# Altium schematic symbol library ISL6236A_DEMO.SchLib: 20 symbols (part 1 of 2)
Pins are listed as number, name and electrical type; pins without a type are passive.

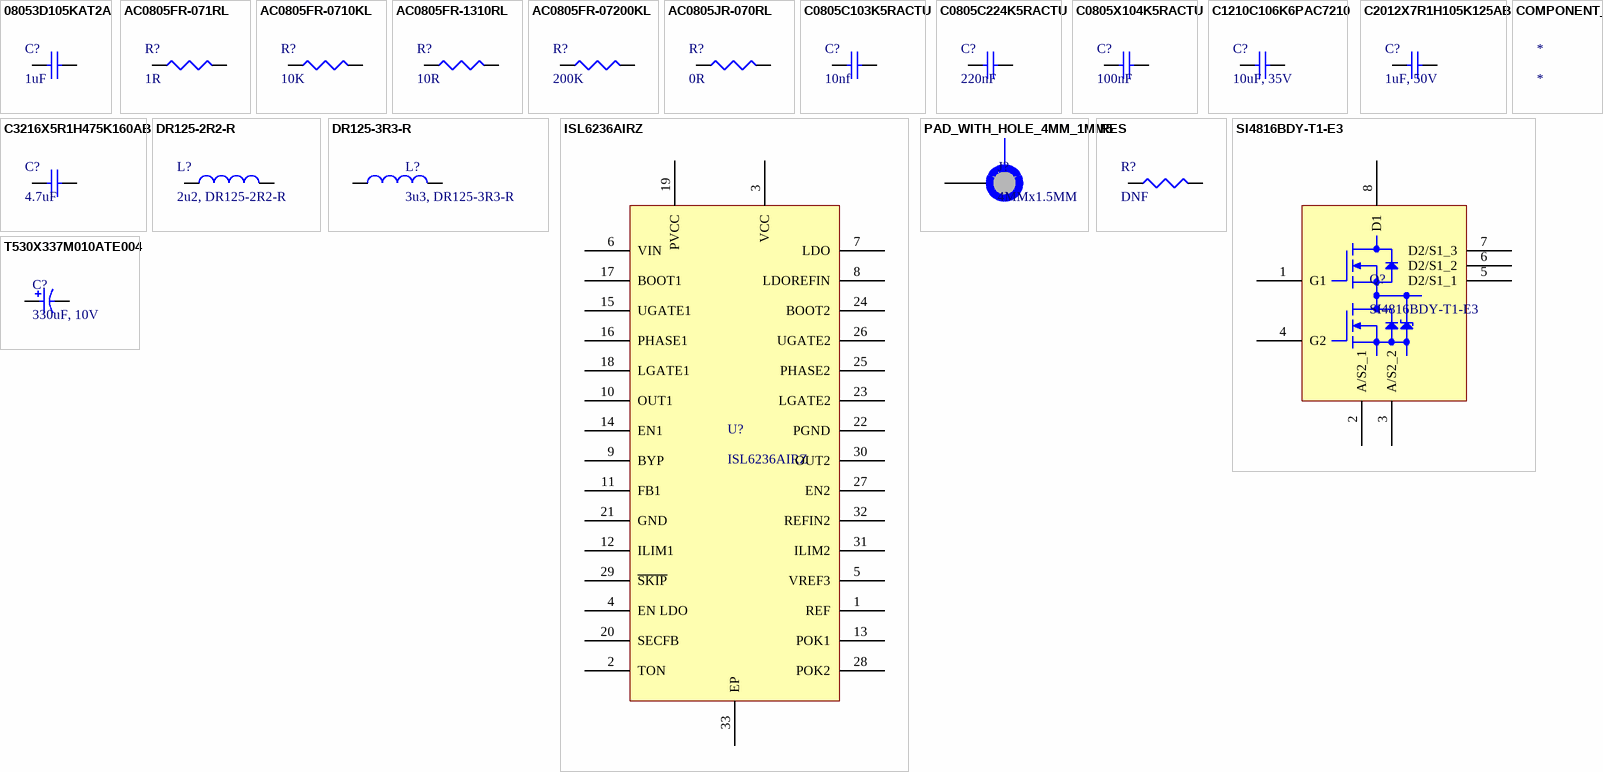
[diagram p0: symbols 08053D105KAT2A to T530X337M010ATE004]

## 08053D105KAT2A
designator C?, comment 1uF
Capacitor, Zero Ohm Resistor, Jumper, 0805 [2012 Metric], Thick Film, 125 mW, 2 A, Surface Mount Device; Manufacturer: KYOCERA AVX; Manufacturer Part Number: 08053D105KAT2A; Manufacturer Package Identifier: 0805 (2012 metric); Value: 1µF; Dielectric: X5R; Dielectric Material: Ceramic; Tolerance: 10%; Voltage: 25V; Max Power Dissipation: 125mW; Temperature Coefficient: 200ppm/°C; Supplier: DigiKey; Supplier Part Number: 478-KGM21AR51E105KUCT-ND; RoHS: Compliant; Category: Ceramic Capacitors; Stock: 22000; Pricing: 1=0.68, 10=0.423, 50=0.3216, 100=0.2903, 500=0.23776, 1000=0.22151 (USD); Case/Package: 0805; Case Code (Imperial): 0805; Case Code (Metric): 2012; China RoHS: Compliant; Contact Plating: Tin; Country of Origin: Mainland China, Taiwan; Depth: 1.25mm; Export Control Classification Number (ECCN) Code: EAR99; Height: 1.4mm; Harmonized Tariff Schedule (HTS) Code: 8532.24.00.20; Introduction Date: 2001-11-14; Lead Free: Lead Free; Length: 2.01mm; Lifecycle Status: Production; Material: Ceramic; Max Operating Temperature: 85°C; Min Operating Temperature: -55°C; Mounting Technology: Surface Mount; Pins: 2; Number of Terminals: 2; Radiation Hardening: No; REACH SVHC: Yes; Schedule B: 8532240020; Termination: SMD/SMT; Thickness: 1.397mm; Voltage Rating: 25V; Voltage Rating (AC): 25V; Voltage Rating (DC): 25V; Width: 1.25mm; ComponentLink1URL: https://datasheet.octopart.com:443/08053D105KAT2A-KYOCERA-AVX-datasheet-165873359.pdf?src-supplier=IHS; ComponentLink1Description: https://datasheet.octopart.com:443/08053D105KAT2A-KYOCERA-AVX-datasheet-165873359.pdf?src-supplier=IHS; ComponentLink2URL: https://datasheet.octopart.com:443/08053D105KAT2A-AVX-datasheet-151661372.pdf?src-supplier=Upverter; ComponentLink2Description: https://datasheet.octopart.com:443/08053D105KAT2A-AVX-datasheet-151661372.pdf?src-supplier=Upverter; ComponentLink3URL: https://sigma.octopart.com:443/147443767/technical_drawing/AVX-08053D105KAT2A.pdf?src-supplier=Upverter; ComponentLink3Description: https://sigma.octopart.com:443/147443767/technical_drawing/AVX-08053D105KAT2A.pdf?src-supplier=Upverter; ComponentLink4URL: https://datasheet.octopart.com:443/08053D105KAT2A-AVX-datasheet-12340990.pdf?src-supplier=element14+APAC; ComponentLink4Description: https://datasheet.octopart.com:443/08053D105KAT2A-AVX-datasheet-12340990.pdf?src-supplier=element14+APAC; ComponentLink5URL: https://datasheet.octopart.com:443/08053D105KAT2A-AVX-datasheet-5314571.pdf?src-supplier=Factory+Futures; ComponentLink5Description: https://datasheet.octopart.com:443/08053D105KAT2A-AVX-datasheet-5314571.pdf?src-supplier=Factory+Futures; ComponentLink6URL: https://datasheet.octopart.com:443/08053D105KAT2A-AVX-datasheet-8448153.pdf?src-supplier=Factory+Futures; ComponentLink6Description: https://datasheet.octopart.com:443/08053D105KAT2A-AVX-datasheet-8448153.pdf?src-supplier=Factory+Futures; ComponentLink7URL: https://datasheet.octopart.com:443/08053D105KAT2A-KYOCERA-AVX-datasheet-78690022.pdf?src-supplier=Newark; ComponentLink7Description: https://datasheet.octopart.com:443/08053D105KAT2A-KYOCERA-AVX-datasheet-78690022.pdf?src-supplier=Newark; ComponentLink8URL: https://datasheet.octopart.com:443/08053D105KAT2A-AVX-datasheet-10029314.pdf?src-supplier=Newark; ComponentLink8Description: https://datasheet.octopart.com:443/08053D105KAT2A-AVX-datasheet-10029314.pdf?src-supplier=Newark; ComponentLink9URL: https://datasheet.octopart.com:443/08053D105KAT2A-AVX-datasheet-504564.pdf?src-supplier=Newark; ComponentLink9Description: https://datasheet.octopart.com:443/08053D105KAT2A-AVX-datasheet-504564.pdf?src-supplier=Newark; ComponentLink10URL: https://datasheet.octopart.com:443/08053D105KAT2A-KYOCERA-AVX-datasheet-50865064.pdf?src-supplier=Future+Electronics; ComponentLink10Description: https://datasheet.octopart.com:443/08053D105KAT2A-KYOCERA-AVX-datasheet-50865064.pdf?src-supplier=Future+Electronics; ComponentLink11URL: https://datasheet.octopart.com:443/08053D105KAT2A-AVX-datasheet-26443659.pdf?src-supplier=Future+Electronics; ComponentLink11Description: https://datasheet.octopart.com:443/08053D105KAT2A-AVX-datasheet-26443659.pdf?src-supplier=Future+Electronics; ComponentLink12URL: https://datasheet.octopart.com:443/08053D105KAT2A-AVX---Kyocera-datasheet-52.pdf?src-supplier=TME; ComponentLink12Description: https://datasheet.octopart.com:443/08053D105KAT2A-AVX---Kyocera-datasheet-52.pdf?src-supplier=TME; ComponentLink13URL: https://datasheet.octopart.com:443/08053D105KAT2A-KYOCERA-AVX-datasheet-155912759.pdf?src-supplier=TME; ComponentLink13Description: https://datasheet.octopart.com:443/08053D105KAT2A-KYOCERA-AVX-datasheet-155912759.pdf?src-supplier=TME; ComponentLink14URL: https://datasheet.octopart.com:443/08053D105KAT2A-KYOCERA-AVX-datasheet-156093842.pdf?src-supplier=TME; ComponentLink14Description: https://datasheet.octopart.com:443/08053D105KAT2A-KYOCERA-AVX-datasheet-156093842.pdf?src-supplier=TME; ComponentLink15URL: https://datasheet.octopart.com:443/08053D105KAT2A-KYOCERA-AVX-datasheet-158983636.pdf?src-supplier=Farnell; ComponentLink15Description: https://datasheet.octopart.com:443/08053D105KAT2A-KYOCERA-AVX-datasheet-158983636.pdf?src-supplier=Farnell; ComponentLink16URL: https://datasheet.octopart.com:443/08053D105KAT2A-AVX-datasheet-499312.pdf?src-supplier=Farnell; ComponentLink16Description: https://datasheet.octopart.com:443/08053D105KAT2A-AVX-datasheet-499312.pdf?src-supplier=Farnell; ComponentLink17URL: https://datasheet.octopart.com:443/08053D105KAT2A-AVX-datasheet-53666.pdf?src-supplier=Farnell; ComponentLink17Description: https://datasheet.octopart.com:443/08053D105KAT2A-AVX-datasheet-53666.pdf?src-supplier=Farnell; ComponentLink18URL: https://datasheet.octopart.com/08053D105KAT2A-AVX---Kyocera-datasheet-13516023.pdf; ComponentLink18Description: https://datasheet.octopart.com/08053D105KAT2A-AVX---Kyocera-datasheet-13516023.pdf; ComponentLink19URL: https://datasheet.octopart.com:443/08053D105KAT2A-AVX-datasheet-8318030.pdf?src-supplier=Garrett; ComponentLink19Description: https://datasheet.octopart.com:443/08053D105KAT2A-AVX-datasheet-8318030.pdf?src-supplier=Garrett; ComponentLink20URL: https://datasheet.octopart.com:443/08053D105KAT2A-AVX-datasheet-5383.pdf?src-supplier=Garrett; ComponentLink20Description: https://datasheet.octopart.com:443/08053D105KAT2A-AVX-datasheet-5383.pdf?src-supplier=Garrett; ComponentLink21URL: https://datasheet.octopart.com:443/08053D105KAT2A-AVX-datasheet-109270.pdf?src-supplier=Garrett; ComponentLink21Description: https://datasheet.octopart.com:443/08053D105KAT2A-AVX-datasheet-109270.pdf?src-supplier=Garrett; ComponentLink22URL: https://datasheet.octopart.com:443/08053D105KAT2A-AVX-datasheet-22851.pdf?src-supplier=RS+(Formerly+Allied+Electronics); ComponentLink22Description: https://datasheet.octopart.com:443/08053D105KAT2A-AVX-datasheet-22851.pdf?src-supplier=RS+(Formerly+Allied+Electronics); ComponentLink23URL: https://datasheet.octopart.com:443/08053D105KAT2A-AVX-datasheet-111401.pdf?src-supplier=Sierra+IC; ComponentLink23Description: https://datasheet.octopart.com:443/08053D105KAT2A-AVX-datasheet-111401.pdf?src-supplier=Sierra+IC; ComponentLink24URL: http://sigma.octopart.com:80/conflict_mineral_statement/AVX-company-34.pdf?src-supplier=Compliance+Statements; ComponentLink24Description: http://sigma.octopart.com:80/conflict_mineral_statement/AVX-company-34.pdf?src-supplier=Compliance+Statements; ComponentLink25URL: http://sigma.octopart.com:80/reach_statement/AVX-company-19.pdf?src-supplier=Compliance+Statements; ComponentLink25Description: http://sigma.octopart.com:80/reach_statement/AVX-company-19.pdf?src-supplier=Compliance+Statements; Composition: Thick Film; Features: Automotive AEC-Q200, Moisture Resistant; Number of Terminations: 2; Packaging: Tape & Reel; Power Rating: 125mW; Ratings: AEC-Q200; ComponentLink26URL: https://datasheet.octopart.com:443/AC0805JR-070RL-Yageo-datasheet-176385416.pdf?src-supplier=IHS; ComponentLink26Description: https://datasheet.octopart.com:443/AC0805JR-070RL-Yageo-datasheet-176385416.pdf?src-supplier=IHS; ComponentLink27URL: https://datasheet.octopart.com:443/AC0805JR-070RL-Yageo-datasheet-151884373.pdf?src-supplier=Future+Electronics; ComponentLink27Description: https://datasheet.octopart.com:443/AC0805JR-070RL-Yageo-datasheet-151884373.pdf?src-supplier=Future+Electronics; ComponentLink28URL: https://datasheet.octopart.com:443/AC0805JR-070RL-Yageo-datasheet-166720450.pdf?src-supplier=Future+Electronics; ComponentLink28Description: https://datasheet.octopart.com:443/AC0805JR-070RL-Yageo-datasheet-166720450.pdf?src-supplier=Future+Electronics; ComponentLink29URL: https://datasheet.octopart.com:443/AC0805JR-070RL-Yageo-datasheet-137699919.pdf?src-supplier=Future+Electronics; ComponentLink29Description: https://datasheet.octopart.com:443/AC0805JR-070RL-Yageo-datasheet-137699919.pdf?src-supplier=Future+Electronics; ComponentLink30URL: https://datasheet.octopart.com:443/AC0805JR-070RL-Yageo-datasheet-83209224.pdf?src-supplier=Future+Electronics; ComponentLink30Description: https://datasheet.octopart.com:443/AC0805JR-070RL-Yageo-datasheet-83209224.pdf?src-supplier=Future+Electronics; ComponentLink31URL: https://datasheet.octopart.com:443/AC0805JR-070RL-Yageo-datasheet-62139191.pdf?src-supplier=Future+Electronics; ComponentLink31Description: https://datasheet.octopart.com:443/AC0805JR-070RL-Yageo-datasheet-62139191.pdf?src-supplier=Future+Electronics; ComponentLink32URL: https://sigma.octopart.com:443/138820526/technical_drawing/Yageo-AC0805JR-070RL.pdf?src-supplier=Upverter; ComponentLink32Description: https://sigma.octopart.com:443/138820526/technical_drawing/Yageo-AC0805JR-070RL.pdf?src-supplier=Upverter; ComponentLink33URL: https://datasheet.octopart.com:443/AC0805JR-070RL-Yageo-Group-datasheet-164768995.pdf?src-supplier=ODG+(Origin+Data+Global); ComponentLink33Description: https://datasheet.octopart.com:443/AC0805JR-070RL-Yageo-Group-datasheet-164768995.pdf?src-supplier=ODG+(Origin+Data+Global); ComponentLink34URL: https://datasheet.octopart.com/AC0805JR-070RL-Yageo-datasheet-12512238.pdf; ComponentLink34Description: https://datasheet.octopart.com/AC0805JR-070RL-Yageo-datasheet-12512238.pdf; ComponentLink35URL: https://datasheet.octopart.com:443/AC0805JR-070RL-Yageo-Group-datasheet-190384202.pdf?src-supplier=Farnell; ComponentLink35Description: https://datasheet.octopart.com:443/AC0805JR-070RL-Yageo-Group-datasheet-190384202.pdf?src-supplier=Farnell; ComponentLink36URL: http://sigma.octopart.com:80/conflict_mineral_statement/Yageo-company-3.pdf?src-supplier=Compliance+Statements; ComponentLink36Description: http://sigma.octopart.com:80/conflict_mineral_statement/Yageo-company-3.pdf?src-supplier=Compliance+Statements; ComponentLink37URL: http://sigma.octopart.com:80/rohs_statement/Yageo-company-2.pdf?src-supplier=Compliance+Statements; ComponentLink37Description: http://sigma.octopart.com:80/rohs_statement/Yageo-company-2.pdf?src-supplier=Compliance+Statements
pins: 1, 2

## AC0805FR-071RL
designator R?, comment 1R
Res Thick Film 0805 1 Ohm 1% 0.125W(1/8W) ±200ppm/C Pad SMD T/R Automotive AEC-Q200; Manufacturer: Yageo Group; Manufacturer Part Number: AC0805FR-071RL; Manufacturer Package Identifier: 0805 (2012 metric); Max Power Dissipation: 125mW; Value: 1Ω; Temperature Coefficient: 200ppm/°C; Voltage Rating: 150V; Supplier: DigiKey; Supplier Part Number: YAG3705CT-ND; RoHS: Compliant; Category: Chip SMD Resistors; Stock: 493; Pricing: 1=0.12, 10=0.055, 25=0.042, 50=0.035, 100=0.0293, 250=0.02368, 500=0.02046, 1000=0.01791 (USD); Case/Package: 0805; Case Code (Imperial): 0805; Case Code (Metric): 2012; China RoHS: Non-Compliant; Composition: Thick Film; Features: Automotive AEC-Q200, Moisture Resistant; Height: 500µm; Lead Free: Lead Free; Length: 2mm; Lifecycle Status: Production; Max Operating Temperature: 155°C; Min Operating Temperature: -55°C; Mounting Technology: Surface Mount; Number of Terminals: 2; Number of Terminations: 2; Packaging: Tape & Reel; Power Rating: 125mW; Ratings: AEC-Q200; REACH SVHC: Yes; Schedule B: 8533210045, 8533210045|8533210045|8533210045|8533210045|8533210045; Termination: SMD/SMT; Tolerance: 1%; Weight: 5.499807mg; Width: 1.25mm; Working Voltage: 150V; ComponentLink1URL: https://datasheet.octopart.com:443/AC0805FR-071RL-Yageo-datasheet-182189377.pdf?src-supplier=IHS; ComponentLink1Description: https://datasheet.octopart.com:443/AC0805FR-071RL-Yageo-datasheet-182189377.pdf?src-supplier=IHS; ComponentLink2URL: https://datasheet.octopart.com:443/AC0805FR-071RL-Yageo-datasheet-178509465.pdf?src-supplier=Newark; ComponentLink2Description: https://datasheet.octopart.com:443/AC0805FR-071RL-Yageo-datasheet-178509465.pdf?src-supplier=Newark; ComponentLink3URL: https://datasheet.octopart.com:443/AC0805FR-071RL-Yageo-datasheet-166720450.pdf?src-supplier=JRH+Electronics; ComponentLink3Description: https://datasheet.octopart.com:443/AC0805FR-071RL-Yageo-datasheet-166720450.pdf?src-supplier=JRH+Electronics; ComponentLink4URL: https://datasheet.octopart.com/AC0805FR-071RL-Yageo-datasheet-12512238.pdf; ComponentLink4Description: https://datasheet.octopart.com/AC0805FR-071RL-Yageo-datasheet-12512238.pdf; ComponentLink5URL: https://datasheet.octopart.com:443/AC0805FR-071RL-Yageo-Group-datasheet-188689268.pdf?src-supplier=TME; ComponentLink5Description: https://datasheet.octopart.com:443/AC0805FR-071RL-Yageo-Group-datasheet-188689268.pdf?src-supplier=TME; ComponentLink6URL: https://datasheet.octopart.com:443/AC0805FR-071RL-Yageo-Group-datasheet-164768995.pdf?src-supplier=ODG+(Origin+Data+Global); ComponentLink6Description: https://datasheet.octopart.com:443/AC0805FR-071RL-Yageo-Group-datasheet-164768995.pdf?src-supplier=ODG+(Origin+Data+Global); ComponentLink7URL: https://datasheet.octopart.com:443/AC0805FR-071RL-Yageo-datasheet-151884373.pdf?src-supplier=Future+Electronics; ComponentLink7Description: https://datasheet.octopart.com:443/AC0805FR-071RL-Yageo-datasheet-151884373.pdf?src-supplier=Future+Electronics; ComponentLink8URL: https://datasheet.octopart.com:443/AC0805FR-071RL-Yageo-datasheet-137699919.pdf?src-supplier=Future+Electronics; ComponentLink8Description: https://datasheet.octopart.com:443/AC0805FR-071RL-Yageo-datasheet-137699919.pdf?src-supplier=Future+Electronics; ComponentLink9URL: https://datasheet.octopart.com:443/AC0805FR-071RL-Yageo-datasheet-24580492.pdf?src-supplier=Future+Electronics; ComponentLink9Description: https://datasheet.octopart.com:443/AC0805FR-071RL-Yageo-datasheet-24580492.pdf?src-supplier=Future+Electronics; ComponentLink10URL: https://datasheet.octopart.com:443/AC0805FR-071RL-Yageo-datasheet-13029202.pdf?src-supplier=Future+Electronics; ComponentLink10Description: https://datasheet.octopart.com:443/AC0805FR-071RL-Yageo-datasheet-13029202.pdf?src-supplier=Future+Electronics; ComponentLink11URL: http://sigma.octopart.com:80/conflict_mineral_statement/Yageo-company-3.pdf?src-supplier=Compliance+Statements; ComponentLink11Description: http://sigma.octopart.com:80/conflict_mineral_statement/Yageo-company-3.pdf?src-supplier=Compliance+Statements; ComponentLink12URL: http://sigma.octopart.com:80/rohs_statement/Yageo-company-2.pdf?src-supplier=Compliance+Statements; ComponentLink12Description: http://sigma.octopart.com:80/rohs_statement/Yageo-company-2.pdf?src-supplier=Compliance+Statements
pins: 1, 2

## AC0805FR-0710KL
designator R?, comment 10K
Res Thick Film 0805 10K Ohm 1% 0.125W(1/8W) ±100ppm/C Pad SMD Automotive T/R; Manufacturer: Yageo Group; Manufacturer Part Number: AC0805FR-0710KL; Max Power Dissipation: 125mW; Value: 10kΩ; Temperature Coefficient: 100ppm/°C; Voltage Rating: 150V; Supplier: DigiKey; Supplier Part Number: 311-10KLGCT-ND; RoHS: Compliant; Category: Chip SMD Resistors; Stock: 179739; Pricing: 1=0.1, 10=0.037, 25=0.028, 50=0.0228, 100=0.0188, 250=0.01484, 500=0.0126, 1000=0.01083 (USD); Case/Package: 0805; Case Code (Imperial): 0805; Case Code (Metric): 2012; China RoHS: Non-Compliant; Composition: Thick Film; Depth: 1.25mm; Features: Anti-Sulfur, Automotive AEC-Q200, Moisture Resistant; Height: 500µm; Lead Free: Lead Free; Length: 2mm; Lifecycle Status: Production; Max Operating Temperature: 155°C; Military Standard: Not; Min Operating Temperature: -55°C; Mounting Technology: Surface Mount; Number of Terminals: 2; Number of Terminations: 2; Packaging: Tape & Reel; Power Rating: 125mW; Ratings: AEC-Q200; REACH SVHC: Yes; Schedule B: 8533210045, 8533210045|8533210045, 8533210045|8533210045|8533210045, 8533210045|8533210045|8533210045|8533210045; Termination: SMD/SMT; Tolerance: 1%; Width: 1.25mm; Working Voltage: 150V; ComponentLink1URL: https://datasheet.octopart.com:443/AC0805FR-0710KL-Yageo-datasheet-182189377.pdf?src-supplier=IHS; ComponentLink1Description: https://datasheet.octopart.com:443/AC0805FR-0710KL-Yageo-datasheet-182189377.pdf?src-supplier=IHS; ComponentLink2URL: https://datasheet.octopart.com:443/AC0805FR-0710KL-Yageo-datasheet-83209224.pdf?src-supplier=Upverter; ComponentLink2Description: https://datasheet.octopart.com:443/AC0805FR-0710KL-Yageo-datasheet-83209224.pdf?src-supplier=Upverter; ComponentLink3URL: https://datasheet.octopart.com:443/AC0805FR-0710KL-Yageo-datasheet-178509465.pdf?src-supplier=Newark; ComponentLink3Description: https://datasheet.octopart.com:443/AC0805FR-0710KL-Yageo-datasheet-178509465.pdf?src-supplier=Newark; ComponentLink4URL: https://datasheet.octopart.com/AC0805FR-0710KL-Yageo-datasheet-12512238.pdf; ComponentLink4Description: https://datasheet.octopart.com/AC0805FR-0710KL-Yageo-datasheet-12512238.pdf; ComponentLink5URL: https://datasheet.octopart.com:443/AC0805FR-0710KL-Yageo-datasheet-166720450.pdf?src-supplier=Future+Electronics; ComponentLink5Description: https://datasheet.octopart.com:443/AC0805FR-0710KL-Yageo-datasheet-166720450.pdf?src-supplier=Future+Electronics; ComponentLink6URL: https://datasheet.octopart.com:443/AC0805FR-0710KL-Yageo-datasheet-151884373.pdf?src-supplier=Future+Electronics; ComponentLink6Description: https://datasheet.octopart.com:443/AC0805FR-0710KL-Yageo-datasheet-151884373.pdf?src-supplier=Future+Electronics; ComponentLink7URL: https://datasheet.octopart.com:443/AC0805FR-0710KL-Yageo-datasheet-137699919.pdf?src-supplier=Future+Electronics; ComponentLink7Description: https://datasheet.octopart.com:443/AC0805FR-0710KL-Yageo-datasheet-137699919.pdf?src-supplier=Future+Electronics; ComponentLink8URL: https://datasheet.octopart.com:443/AC0805FR-0710KL-Yageo-datasheet-24580492.pdf?src-supplier=Future+Electronics; ComponentLink8Description: https://datasheet.octopart.com:443/AC0805FR-0710KL-Yageo-datasheet-24580492.pdf?src-supplier=Future+Electronics; ComponentLink9URL: https://datasheet.octopart.com:443/AC0805FR-0710KL-Yageo-datasheet-13029202.pdf?src-supplier=Future+Electronics; ComponentLink9Description: https://datasheet.octopart.com:443/AC0805FR-0710KL-Yageo-datasheet-13029202.pdf?src-supplier=Future+Electronics; ComponentLink10URL: https://datasheet.octopart.com:443/AC0805FR-0710KL-Yageo-Group-datasheet-164768995.pdf?src-supplier=ODG+(Origin+Data+Global); ComponentLink10Description: https://datasheet.octopart.com:443/AC0805FR-0710KL-Yageo-Group-datasheet-164768995.pdf?src-supplier=ODG+(Origin+Data+Global); ComponentLink11URL: https://datasheet.octopart.com:443/AC0805FR-0710KL-Yageo-datasheet-159083007.pdf?src-supplier=TME; ComponentLink11Description: https://datasheet.octopart.com:443/AC0805FR-0710KL-Yageo-datasheet-159083007.pdf?src-supplier=TME; ComponentLink12URL: https://datasheet.octopart.com:443/AC0805FR-0710KL-Yageo-datasheet-128680559.pdf?src-supplier=X-ON; ComponentLink12Description: https://datasheet.octopart.com:443/AC0805FR-0710KL-Yageo-datasheet-128680559.pdf?src-supplier=X-ON; ComponentLink13URL: https://datasheet.octopart.com:443/AC0805FR-0710KL-Yageo-datasheet-140571090.pdf?src-supplier=Arrow.cn; ComponentLink13Description: https://datasheet.octopart.com:443/AC0805FR-0710KL-Yageo-datasheet-140571090.pdf?src-supplier=Arrow.cn; ComponentLink14URL: http://sigma.octopart.com:80/conflict_mineral_statement/Yageo-company-3.pdf?src-supplier=Compliance+Statements; ComponentLink14Description: http://sigma.octopart.com:80/conflict_mineral_statement/Yageo-company-3.pdf?src-supplier=Compliance+Statements; ComponentLink15URL: http://sigma.octopart.com:80/rohs_statement/Yageo-company-2.pdf?src-supplier=Compliance+Statements; ComponentLink15Description: http://sigma.octopart.com:80/rohs_statement/Yageo-company-2.pdf?src-supplier=Compliance+Statements
pins: 1, 2

## AC0805FR-1310RL
designator R?, comment 10R
Res Thick Film 0805 10 Ohm 1% 0.125W(1/8W) ±100ppm/C Pad SMD T/R Automotive AEC-Q200; Manufacturer: Yageo Group; Manufacturer Part Number: AC0805FR-1310RL; Power Rating: 125mW; Value: 10Ω; Temperature Coefficient: 100ppm/°C; Voltage Rating: 150V; Supplier: DigiKey; Supplier Part Number: 13-AC0805FR-1310RLDKR-ND; RoHS: Compliant; Category: Chip SMD Resistors; Stock: 19780; Pricing: 1=0.12, 10=0.055, 25=0.042, 50=0.035, 100=0.0293, 250=0.02368, 500=0.02046, 1000=0.01791, 5000=0.01387 (USD); Case/Package: 0805; China RoHS: Non-Compliant; Composition: Thick Film; Country of Origin: Mainland China, Taiwan; Export Control Classification Number (ECCN) Code: EAR99; Height: 500µm; Harmonized Tariff Schedule (HTS) Code: 8533.21.00.30; Introduction Date: 2012-04-10; Length: 2mm; Lifecycle Status: Production; Max Operating Temperature: 155°C; Min Operating Temperature: -55°C; Mounting Technology: Surface Mount; Number of Terminals: 2; Packaging: Tape & Reel; Ratings: AEC-Q200; REACH SVHC: Yes; Tolerance: 1%; Width: 1.25mm; Working Voltage: 150V; ComponentLink1URL: https://datasheet.octopart.com:443/AC0805FR-1310RL-Yageo-datasheet-182189377.pdf?src-supplier=IHS; ComponentLink1Description: https://datasheet.octopart.com:443/AC0805FR-1310RL-Yageo-datasheet-182189377.pdf?src-supplier=IHS; ComponentLink2URL: https://datasheet.octopart.com:443/AC0805FR-1310RL-Yageo-datasheet-83209224.pdf?src-supplier=Upverter; ComponentLink2Description: https://datasheet.octopart.com:443/AC0805FR-1310RL-Yageo-datasheet-83209224.pdf?src-supplier=Upverter; ComponentLink3URL: https://datasheet.octopart.com/AC0805FR-1310RL-Yageo-datasheet-12512238.pdf; ComponentLink3Description: https://datasheet.octopart.com/AC0805FR-1310RL-Yageo-datasheet-12512238.pdf; ComponentLink4URL: http://sigma.octopart.com:80/conflict_mineral_statement/Yageo-company-3.pdf?src-supplier=Compliance+Statements; ComponentLink4Description: http://sigma.octopart.com:80/conflict_mineral_statement/Yageo-company-3.pdf?src-supplier=Compliance+Statements; ComponentLink5URL: http://sigma.octopart.com:80/rohs_statement/Yageo-company-2.pdf?src-supplier=Compliance+Statements; ComponentLink5Description: http://sigma.octopart.com:80/rohs_statement/Yageo-company-2.pdf?src-supplier=Compliance+Statements
pins: 1, 2

## AC0805FR-07200KL
designator R?, comment 200K
Res Thick Film 0805 200K Ohm 1% 0.125W(1/8W) ±100ppm/C Pad SMD T/R Automotive AEC-Q200; Manufacturer: Yageo Group; Manufacturer Part Number: AC0805FR-07200KL; Manufacturer Package Identifier: 0805 (2012 metric); Max Power Dissipation: 125mW; Value: 200kΩ; Temperature Coefficient: 100ppm/°C; Voltage Rating: 150V; Supplier: DigiKey; Supplier Part Number: YAG3706CT-ND; RoHS: Compliant; Category: Chip SMD Resistors; Stock: 42266; Pricing: 1=0.1, 10=0.037, 25=0.028, 50=0.0228, 100=0.0188, 250=0.01484, 500=0.0126, 1000=0.01083 (USD); Case/Package: 0805; Case Code (Imperial): 0805; Case Code (Metric): 2012; China RoHS: Non-Compliant; Composition: Thick Film; Features: Automotive AEC-Q200, Moisture Resistant; Height: 500µm; Lead Free: Lead Free; Length: 2mm; Lifecycle Status: Production; Max Operating Temperature: 155°C; Min Operating Temperature: -55°C; Mounting Technology: Surface Mount; Number of Terminals: 2; Number of Terminations: 2; Packaging: Tape & Reel; Power Rating: 125mW; Ratings: AEC-Q200; REACH SVHC: Yes; Schedule B: 8533210045, 8533210045|8533210045|8533210045|8533210045|8533210045; Termination: SMD/SMT; Tolerance: 1%; Width: 1.25mm; Working Voltage: 150V; ComponentLink1URL: https://datasheet.octopart.com:443/AC0805FR-07200KL-Yageo-datasheet-182189377.pdf?src-supplier=IHS; ComponentLink1Description: https://datasheet.octopart.com:443/AC0805FR-07200KL-Yageo-datasheet-182189377.pdf?src-supplier=IHS; ComponentLink2URL: https://datasheet.octopart.com:443/AC0805FR-07200KL-Yageo-datasheet-83209224.pdf?src-supplier=Upverter; ComponentLink2Description: https://datasheet.octopart.com:443/AC0805FR-07200KL-Yageo-datasheet-83209224.pdf?src-supplier=Upverter; ComponentLink3URL: https://datasheet.octopart.com:443/AC0805FR-07200KL-Yageo-datasheet-178509465.pdf?src-supplier=Farnell; ComponentLink3Description: https://datasheet.octopart.com:443/AC0805FR-07200KL-Yageo-datasheet-178509465.pdf?src-supplier=Farnell; ComponentLink4URL: https://datasheet.octopart.com/AC0805FR-07200KL-Yageo-datasheet-12512238.pdf; ComponentLink4Description: https://datasheet.octopart.com/AC0805FR-07200KL-Yageo-datasheet-12512238.pdf; ComponentLink5URL: https://datasheet.octopart.com:443/AC0805FR-07200KL-Yageo-Group-datasheet-193561750.pdf?src-supplier=element14+APAC; ComponentLink5Description: https://datasheet.octopart.com:443/AC0805FR-07200KL-Yageo-Group-datasheet-193561750.pdf?src-supplier=element14+APAC; ComponentLink6URL: https://datasheet.octopart.com:443/AC0805FR-07200KL-Yageo-datasheet-166720450.pdf?src-supplier=Future+Electronics; ComponentLink6Description: https://datasheet.octopart.com:443/AC0805FR-07200KL-Yageo-datasheet-166720450.pdf?src-supplier=Future+Electronics; ComponentLink7URL: https://datasheet.octopart.com:443/AC0805FR-07200KL-Yageo-datasheet-151884373.pdf?src-supplier=Future+Electronics; ComponentLink7Description: https://datasheet.octopart.com:443/AC0805FR-07200KL-Yageo-datasheet-151884373.pdf?src-supplier=Future+Electronics; ComponentLink8URL: https://datasheet.octopart.com:443/AC0805FR-07200KL-Yageo-datasheet-137699919.pdf?src-supplier=Future+Electronics; ComponentLink8Description: https://datasheet.octopart.com:443/AC0805FR-07200KL-Yageo-datasheet-137699919.pdf?src-supplier=Future+Electronics; ComponentLink9URL: https://datasheet.octopart.com:443/AC0805FR-07200KL-Yageo-datasheet-24580492.pdf?src-supplier=Future+Electronics; ComponentLink9Description: https://datasheet.octopart.com:443/AC0805FR-07200KL-Yageo-datasheet-24580492.pdf?src-supplier=Future+Electronics; ComponentLink10URL: https://datasheet.octopart.com:443/AC0805FR-07200KL-Yageo-datasheet-13029202.pdf?src-supplier=Future+Electronics; ComponentLink10Description: https://datasheet.octopart.com:443/AC0805FR-07200KL-Yageo-datasheet-13029202.pdf?src-supplier=Future+Electronics; ComponentLink11URL: https://datasheet.octopart.com:443/AC0805FR-07200KL-Yageo-Group-datasheet-164768995.pdf?src-supplier=ODG+(Origin+Data+Global); ComponentLink11Description: https://datasheet.octopart.com:443/AC0805FR-07200KL-Yageo-Group-datasheet-164768995.pdf?src-supplier=ODG+(Origin+Data+Global); ComponentLink12URL: https://datasheet.octopart.com:443/AC0805FR-07200KL-Yageo-datasheet-140571090.pdf?src-supplier=Arrow.cn; ComponentLink12Description: https://datasheet.octopart.com:443/AC0805FR-07200KL-Yageo-datasheet-140571090.pdf?src-supplier=Arrow.cn; ComponentLink13URL: http://sigma.octopart.com:80/conflict_mineral_statement/Yageo-company-3.pdf?src-supplier=Compliance+Statements; ComponentLink13Description: http://sigma.octopart.com:80/conflict_mineral_statement/Yageo-company-3.pdf?src-supplier=Compliance+Statements; ComponentLink14URL: http://sigma.octopart.com:80/rohs_statement/Yageo-company-2.pdf?src-supplier=Compliance+Statements; ComponentLink14Description: http://sigma.octopart.com:80/rohs_statement/Yageo-company-2.pdf?src-supplier=Compliance+Statements
pins: 1, 2

## AC0805JR-070RL
designator R?, comment 0R
Zero Ohm Resistor, Jumper, 0805 [2012 Metric], Thick Film, 125 mW, 2 A, Surface Mount Device; Manufacturer: Yageo Group; Manufacturer Part Number: AC0805JR-070RL; Manufacturer Package Identifier: 0805 (2012 metric); Max Power Dissipation: 125mW; Value: 0Ω; Temperature Coefficient: 200ppm/°C; Tolerance: 5%; Voltage Rating: 150V; Supplier: DigiKey; Supplier Part Number: YAG3755CT-ND; RoHS: Compliant; Category: Chip SMD Resistors; Stock: 218115; Pricing: 1=0.1, 10=0.019, 25=0.016, 50=0.0138, 100=0.0121, 250=0.01024, 500=0.00902, 1000=0.008 (USD); Case/Package: 0805; Case Code (Imperial): 0805; Case Code (Metric): 2012; China RoHS: Non-Compliant; Composition: Thick Film; Features: Automotive AEC-Q200, Moisture Resistant; Height: 500µm; Lead Free: Lead Free; Length: 2mm; Lifecycle Status: Production; Max Operating Temperature: 155°C; Min Operating Temperature: -55°C; Mounting Technology: Surface Mount; Number of Terminals: 2; Number of Terminations: 2; Packaging: Tape & Reel; Power Rating: 125mW; Ratings: AEC-Q200; REACH SVHC: Yes; Termination: SMD/SMT; Width: 1.25mm; ComponentLink1URL: https://datasheet.octopart.com:443/AC0805JR-070RL-Yageo-datasheet-176385416.pdf?src-supplier=IHS; ComponentLink1Description: https://datasheet.octopart.com:443/AC0805JR-070RL-Yageo-datasheet-176385416.pdf?src-supplier=IHS; ComponentLink2URL: https://datasheet.octopart.com:443/AC0805JR-070RL-Yageo-datasheet-151884373.pdf?src-supplier=Future+Electronics; ComponentLink2Description: https://datasheet.octopart.com:443/AC0805JR-070RL-Yageo-datasheet-151884373.pdf?src-supplier=Future+Electronics; ComponentLink3URL: https://datasheet.octopart.com:443/AC0805JR-070RL-Yageo-datasheet-166720450.pdf?src-supplier=Future+Electronics; ComponentLink3Description: https://datasheet.octopart.com:443/AC0805JR-070RL-Yageo-datasheet-166720450.pdf?src-supplier=Future+Electronics; ComponentLink4URL: https://datasheet.octopart.com:443/AC0805JR-070RL-Yageo-datasheet-137699919.pdf?src-supplier=Future+Electronics; ComponentLink4Description: https://datasheet.octopart.com:443/AC0805JR-070RL-Yageo-datasheet-137699919.pdf?src-supplier=Future+Electronics; ComponentLink5URL: https://datasheet.octopart.com:443/AC0805JR-070RL-Yageo-datasheet-83209224.pdf?src-supplier=Future+Electronics; ComponentLink5Description: https://datasheet.octopart.com:443/AC0805JR-070RL-Yageo-datasheet-83209224.pdf?src-supplier=Future+Electronics; ComponentLink6URL: https://datasheet.octopart.com:443/AC0805JR-070RL-Yageo-datasheet-62139191.pdf?src-supplier=Future+Electronics; ComponentLink6Description: https://datasheet.octopart.com:443/AC0805JR-070RL-Yageo-datasheet-62139191.pdf?src-supplier=Future+Electronics; ComponentLink7URL: https://sigma.octopart.com:443/138820526/technical_drawing/Yageo-AC0805JR-070RL.pdf?src-supplier=Upverter; ComponentLink7Description: https://sigma.octopart.com:443/138820526/technical_drawing/Yageo-AC0805JR-070RL.pdf?src-supplier=Upverter; ComponentLink8URL: https://datasheet.octopart.com:443/AC0805JR-070RL-Yageo-Group-datasheet-164768995.pdf?src-supplier=ODG+(Origin+Data+Global); ComponentLink8Description: https://datasheet.octopart.com:443/AC0805JR-070RL-Yageo-Group-datasheet-164768995.pdf?src-supplier=ODG+(Origin+Data+Global); ComponentLink9URL: https://datasheet.octopart.com/AC0805JR-070RL-Yageo-datasheet-12512238.pdf; ComponentLink9Description: https://datasheet.octopart.com/AC0805JR-070RL-Yageo-datasheet-12512238.pdf; ComponentLink10URL: https://datasheet.octopart.com:443/AC0805JR-070RL-Yageo-Group-datasheet-190384202.pdf?src-supplier=Farnell; ComponentLink10Description: https://datasheet.octopart.com:443/AC0805JR-070RL-Yageo-Group-datasheet-190384202.pdf?src-supplier=Farnell; ComponentLink11URL: http://sigma.octopart.com:80/conflict_mineral_statement/Yageo-company-3.pdf?src-supplier=Compliance+Statements; ComponentLink11Description: http://sigma.octopart.com:80/conflict_mineral_statement/Yageo-company-3.pdf?src-supplier=Compliance+Statements; ComponentLink12URL: http://sigma.octopart.com:80/rohs_statement/Yageo-company-2.pdf?src-supplier=Compliance+Statements; ComponentLink12Description: http://sigma.octopart.com:80/rohs_statement/Yageo-company-2.pdf?src-supplier=Compliance+Statements
pins: 1, 2

## C0805C103K5RACTU
designator C?, comment 10nf
Multilayer Ceramic Capacitors Mlcc - Smd/Smt 50V 0.01Uf X7R 0805 10%; Manufacturer: Yageo Group; Manufacturer Part Number: C0805C103K5RACTU; Temperature Coefficient: 30ppm/°C; Supplier: DigiKey; Supplier Part Number: 399-C0805C103K5RACTUCT-ND; RoHS: Compliant; Category: Ceramic Capacitors; Stock: 1722319; Pricing: 1=0.11, 10=0.06, 50=0.0416, 100=0.036, 500=0.02644, 1000=0.02351 (USD); Value: 10nF; Case/Package: 0805; Case Code (Imperial): 0805; China RoHS: Compliant; Country of Origin: Mainland China; Depth: 1.25mm; Dielectric: X7R; Dielectric Material: Ceramic; Export Control Classification Number (ECCN) Code: EAR99; Height: 780µm; Harmonized Tariff Schedule (HTS) Code: 8532.24.00.20; Introduction Date: 2012-12-07; Lead Free: Lead Free; Lead Pitch: 750µm; Length: 2mm; Lifecycle Status: Production; Material: Ceramic; Max Operating Temperature: 125°C; Min Operating Temperature: -55°C; Mounting Technology: Surface Mount; Pins: 2; Number of Terminals: 2; Packaging: Cut Tape; Radiation Hardening: No; REACH SVHC: Yes; Schedule B: 8532240020, 8532240020|8532240020|8532240020|8532240020|8532240020, 8532240020|8532240020|8532240020|8532240020|8532240020|8532240020, 8532240020|8532240020|8532240020|8532240020|8532240020|8532240020|8532240020; Termination: SMD/SMT; Thickness: 889µm; Tolerance: 10%; Voltage: 50V; Voltage Rating: 50V; Voltage Rating (AC): 50V; Voltage Rating (DC): 50V; Width: 1.25mm; ComponentLink1URL: https://datasheet.octopart.com:443/C0805C103K5RACTU-KEMET-datasheet-178445679.pdf?src-supplier=Farnell; ComponentLink1Description: https://datasheet.octopart.com:443/C0805C103K5RACTU-KEMET-datasheet-178445679.pdf?src-supplier=Farnell; ComponentLink2URL: https://datasheet.octopart.com:443/C0805C103K5RACTU-KEMET-datasheet-137357759.pdf?src-supplier=Farnell; ComponentLink2Description: https://datasheet.octopart.com:443/C0805C103K5RACTU-KEMET-datasheet-137357759.pdf?src-supplier=Farnell; ComponentLink3URL: https://datasheet.octopart.com:443/C0805C103K5RACTU-KEMET-datasheet-101576077.pdf?src-supplier=Farnell; ComponentLink3Description: https://datasheet.octopart.com:443/C0805C103K5RACTU-KEMET-datasheet-101576077.pdf?src-supplier=Farnell; ComponentLink4URL: https://datasheet.octopart.com:443/C0805C103K5RACTU-KEMET-datasheet-176142291.pdf?src-supplier=Farnell; ComponentLink4Description: https://datasheet.octopart.com:443/C0805C103K5RACTU-KEMET-datasheet-176142291.pdf?src-supplier=Farnell; ComponentLink5URL: https://datasheet.octopart.com:443/C0805C103K5RAC-TU-Kemet-datasheet-7833651.pdf?src-supplier=Farnell; ComponentLink5Description: https://datasheet.octopart.com:443/C0805C103K5RAC-TU-Kemet-datasheet-7833651.pdf?src-supplier=Farnell; ComponentLink6URL: https://datasheet.octopart.com:443/C0805C103K5RAC-TU-Kemet-datasheet-7601896.pdf?src-supplier=Farnell; ComponentLink6Description: https://datasheet.octopart.com:443/C0805C103K5RAC-TU-Kemet-datasheet-7601896.pdf?src-supplier=Farnell; ComponentLink7URL: https://datasheet.octopart.com:443/C0805C103K5RAC-TU-Kemet-datasheet-5316294.pdf?src-supplier=Farnell; ComponentLink7Description: https://datasheet.octopart.com:443/C0805C103K5RAC-TU-Kemet-datasheet-5316294.pdf?src-supplier=Farnell; ComponentLink8URL: https://datasheet.octopart.com:443/C0805C103K5RAC-TU-Kemet-datasheet-5314837.pdf?src-supplier=Farnell; ComponentLink8Description: https://datasheet.octopart.com:443/C0805C103K5RAC-TU-Kemet-datasheet-5314837.pdf?src-supplier=Farnell; ComponentLink9URL: https://datasheet.octopart.com:443/C0805C103K5RAC-TU-Kemet-datasheet-8092359.pdf?src-supplier=Farnell; ComponentLink9Description: https://datasheet.octopart.com:443/C0805C103K5RAC-TU-Kemet-datasheet-8092359.pdf?src-supplier=Farnell; ComponentLink10URL: https://datasheet.octopart.com:443/C0805C103K5RAC-TU-Kemet-datasheet-5314449.pdf?src-supplier=Farnell; ComponentLink10Description: https://datasheet.octopart.com:443/C0805C103K5RAC-TU-Kemet-datasheet-5314449.pdf?src-supplier=Farnell; ComponentLink11URL: https://datasheet.octopart.com:443/C0805C103K5RACTU-Kemet-datasheet-5314969.pdf?src-supplier=Farnell; ComponentLink11Description: https://datasheet.octopart.com:443/C0805C103K5RACTU-Kemet-datasheet-5314969.pdf?src-supplier=Farnell; ComponentLink12URL: https://datasheet.octopart.com:443/C0805C103K5RAC-TU-Kemet-datasheet-5314627.pdf?src-supplier=Farnell; ComponentLink12Description: https://datasheet.octopart.com:443/C0805C103K5RAC-TU-Kemet-datasheet-5314627.pdf?src-supplier=Farnell; ComponentLink13URL: https://datasheet.octopart.com:443/C0805C103K5RAC-TU-Kemet-datasheet-5389132.pdf?src-supplier=Farnell; ComponentLink13Description: https://datasheet.octopart.com:443/C0805C103K5RAC-TU-Kemet-datasheet-5389132.pdf?src-supplier=Farnell; ComponentLink14URL: https://datasheet.octopart.com:443/C0805C103K5RAC-TU-Kemet-datasheet-5313836.pdf?src-supplier=Farnell; ComponentLink14Description: https://datasheet.octopart.com:443/C0805C103K5RAC-TU-Kemet-datasheet-5313836.pdf?src-supplier=Farnell; ComponentLink15URL: https://datasheet.octopart.com:443/C0805C103K5RAC-TU-Kemet-datasheet-8111010.pdf?src-supplier=Farnell; ComponentLink15Description: https://datasheet.octopart.com:443/C0805C103K5RAC-TU-Kemet-datasheet-8111010.pdf?src-supplier=Farnell; ComponentLink16URL: https://datasheet.octopart.com:443/C0805C103K5RAC-TU-Kemet-datasheet-7627733.pdf?src-supplier=Farnell; ComponentLink16Description: https://datasheet.octopart.com:443/C0805C103K5RAC-TU-Kemet-datasheet-7627733.pdf?src-supplier=Farnell; ComponentLink17URL: https://datasheet.octopart.com:443/C0805C103K5RACTU-Kemet-datasheet-500041.pdf?src-supplier=Farnell; ComponentLink17Description: https://datasheet.octopart.com:443/C0805C103K5RACTU-Kemet-datasheet-500041.pdf?src-supplier=Farnell; ComponentLink18URL: https://datasheet.octopart.com:443/C0805C103K5RAC-TU-Kemet-datasheet-5315946.pdf?src-supplier=Farnell; ComponentLink18Description: https://datasheet.octopart.com:443/C0805C103K5RAC-TU-Kemet-datasheet-5315946.pdf?src-supplier=Farnell; ComponentLink19URL: https://datasheet.octopart.com:443/C0805C103K5RACTU-KEMET-datasheet-182041101.pdf?src-supplier=IHS; ComponentLink19Description: https://datasheet.octopart.com:443/C0805C103K5RACTU-KEMET-datasheet-182041101.pdf?src-supplier=IHS; ComponentLink20URL: https://datasheet.octopart.com:443/C0805C103K5RACTU-KEMET-datasheet-68331921.pdf?src-supplier=Upverter; ComponentLink20Description: https://datasheet.octopart.com:443/C0805C103K5RACTU-KEMET-datasheet-68331921.pdf?src-supplier=Upverter; ComponentLink21URL: https://datasheet.octopart.com:443/C0805C103K5RAC-TU-Kemet-datasheet-5313890.pdf?src-supplier=Newark; ComponentLink21Description: https://datasheet.octopart.com:443/C0805C103K5RAC-TU-Kemet-datasheet-5313890.pdf?src-supplier=Newark; ComponentLink22URL: https://datasheet.octopart.com:443/C0805C103K5RACTU-KEMET-datasheet-130256537.pdf?src-supplier=Newark; ComponentLink22Description: https://datasheet.octopart.com:443/C0805C103K5RACTU-KEMET-datasheet-130256537.pdf?src-supplier=Newark; ComponentLink23URL: https://datasheet.octopart.com:443/C0805C103K5RAC-TU-Kemet-datasheet-5390537.pdf?src-supplier=Newark; ComponentLink23Description: https://datasheet.octopart.com:443/C0805C103K5RAC-TU-Kemet-datasheet-5390537.pdf?src-supplier=Newark; ComponentLink24URL: https://datasheet.octopart.com:443/C0805C103K5RAC-TU-Kemet-datasheet-7541751.pdf?src-supplier=Newark; ComponentLink24Description: https://datasheet.octopart.com:443/C0805C103K5RAC-TU-Kemet-datasheet-7541751.pdf?src-supplier=Newark; ComponentLink25URL: https://datasheet.octopart.com:443/C0805C103K5RACTU-KEMET-datasheet-176142293.pdf?src-supplier=Newark; ComponentLink25Description: https://datasheet.octopart.com:443/C0805C103K5RACTU-KEMET-datasheet-176142293.pdf?src-supplier=Newark; ComponentLink26URL: https://datasheet.octopart.com:443/C0805C103K5RACTU-Kemet-datasheet-27203261.pdf?src-supplier=Newark; ComponentLink26Description: https://datasheet.octopart.com:443/C0805C103K5RACTU-Kemet-datasheet-27203261.pdf?src-supplier=Newark; ComponentLink27URL: https://datasheet.octopart.com:443/C0805C103K5RACTU-Kemet-datasheet-8764837.pdf?src-supplier=Newark; ComponentLink27Description: https://datasheet.octopart.com:443/C0805C103K5RACTU-Kemet-datasheet-8764837.pdf?src-supplier=Newark; ComponentLink28URL: https://datasheet.octopart.com:443/C0805C103K5RACTU-Kemet-datasheet-8480123.pdf?src-supplier=Newark; ComponentLink28Description: https://datasheet.octopart.com:443/C0805C103K5RACTU-Kemet-datasheet-8480123.pdf?src-supplier=Newark; ComponentLink29URL: https://datasheet.octopart.com:443/C0805C103K5RACTU-Kemet-datasheet-5393970.pdf?src-supplier=Newark; ComponentLink29Description: https://datasheet.octopart.com:443/C0805C103K5RACTU-Kemet-datasheet-5393970.pdf?src-supplier=Newark; ComponentLink30URL: https://datasheet.octopart.com:443/C0805C103K5RACTU-Kemet-datasheet-8502025.pdf?src-supplier=Newark; ComponentLink30Description: https://datasheet.octopart.com:443/C0805C103K5RACTU-Kemet-datasheet-8502025.pdf?src-supplier=Newark; ComponentLink31URL: https://datasheet.octopart.com:443/C0805C103K5RACTU-Kemet-datasheet-161801.pdf?src-supplier=Newark; ComponentLink31Description: https://datasheet.octopart.com:443/C0805C103K5RACTU-Kemet-datasheet-161801.pdf?src-supplier=Newark; ComponentLink32URL: https://datasheet.octopart.com:443/C0805C103K5RAC7800-KEMET-datasheet-37550250.pdf?src-supplier=Electro+Sonic; ComponentLink32Description: https://datasheet.octopart.com:443/C0805C103K5RAC7800-KEMET-datasheet-37550250.pdf?src-supplier=Electro+Sonic; ComponentLink33URL: https://datasheet.octopart.com:443/C0805C103K5RACTU-KEMET-datasheet-32036385.pdf?src-supplier=Electro+Sonic; ComponentLink33Description: https://datasheet.octopart.com:443/C0805C103K5RACTU-KEMET-datasheet-32036385.pdf?src-supplier=Electro+Sonic; ComponentLink34URL: https://datasheet.octopart.com:443/C0805C103K5RAC7800-KEMET-datasheet-188512054.pdf?src-supplier=ODG+(Origin+Data+Global); ComponentLink34Description: https://datasheet.octopart.com:443/C0805C103K5RAC7800-KEMET-datasheet-188512054.pdf?src-supplier=ODG+(Origin+Data+Global); ComponentLink35URL: https://datasheet.octopart.com:443/C0805C103K5RACTU-KEMET-datasheet-178249621.pdf?src-supplier=Master+Electronics; ComponentLink35Description: https://datasheet.octopart.com:443/C0805C103K5RACTU-KEMET-datasheet-178249621.pdf?src-supplier=Master+Electronics; ComponentLink36URL: https://datasheet.octopart.com:443/C0805C103K5RACTU-KEMET-datasheet-164512540.pdf?src-supplier=TME; ComponentLink36Description: https://datasheet.octopart.com:443/C0805C103K5RACTU-KEMET-datasheet-164512540.pdf?src-supplier=TME; ComponentLink37URL: https://datasheet.octopart.com:443/C0805C103K5RACTU-KEMET-datasheet-67847103.pdf?src-supplier=TME; ComponentLink37Description: https://datasheet.octopart.com:443/C0805C103K5RACTU-KEMET-datasheet-67847103.pdf?src-supplier=TME; ComponentLink38URL: https://datasheet.octopart.com:443/C0805C103K5RACTU-KEMET-datasheet-68331906.pdf?src-supplier=TME; ComponentLink38Description: https://datasheet.octopart.com:443/C0805C103K5RACTU-KEMET-datasheet-68331906.pdf?src-supplier=TME; ComponentLink39URL: https://datasheet.octopart.com:443/C0805C103K5RACTU-KEMET-datasheet-110724412.pdf?src-supplier=RS+(Formerly+Allied+Electronics); ComponentLink39Description: https://datasheet.octopart.com:443/C0805C103K5RACTU-KEMET-datasheet-110724412.pdf?src-supplier=RS+(Formerly+Allied+Electronics); ComponentLink40URL: https://datasheet.octopart.com:443/C0805C103K5RACTU-Kemet-datasheet-464.pdf?src-supplier=RS+(Formerly+Allied+Electronics); ComponentLink40Description: https://datasheet.octopart.com:443/C0805C103K5RACTU-Kemet-datasheet-464.pdf?src-supplier=RS+(Formerly+Allied+Electronics); ComponentLink41URL: https://datasheet.octopart.com/C0805C103K5RACTU-KEMET-datasheet-84169754.pdf; ComponentLink41Description: https://datasheet.octopart.com/C0805C103K5RACTU-KEMET-datasheet-84169754.pdf; ComponentLink42URL: https://datasheet.octopart.com:443/C0805C103K5RACTU-Kemet-datasheet-24570007.pdf?src-supplier=element14+APAC; ComponentLink42Description: https://datasheet.octopart.com:443/C0805C103K5RACTU-Kemet-datasheet-24570007.pdf?src-supplier=element14+APAC; ComponentLink43URL: https://datasheet.octopart.com:443/C0805C103K5RACTU-Kemet-datasheet-22084244.pdf?src-supplier=element14+APAC; ComponentLink43Description: https://datasheet.octopart.com:443/C0805C103K5RACTU-Kemet-datasheet-22084244.pdf?src-supplier=element14+APAC; ComponentLink44URL: https://datasheet.octopart.com:443/C0805C103K5RACTU-Kemet-datasheet-11974838.pdf?src-supplier=Arrow+Electronics; ComponentLink44Description: https://datasheet.octopart.com:443/C0805C103K5RACTU-Kemet-datasheet-11974838.pdf?src-supplier=Arrow+Electronics; ComponentLink45URL: http://sigma.octopart.com:80/conflict_mineral_statement/Yageo-company-3.pdf?src-supplier=Compliance+Statements; ComponentLink45Description: http://sigma.octopart.com:80/conflict_mineral_statement/Yageo-company-3.pdf?src-supplier=Compliance+Statements; ComponentLink46URL: http://sigma.octopart.com:80/rohs_statement/Yageo-company-2.pdf?src-supplier=Compliance+Statements; ComponentLink46Description: http://sigma.octopart.com:80/rohs_statement/Yageo-company-2.pdf?src-supplier=Compliance+Statements
footprint C0805
pins: 1, 2